# Altium schematic symbol library Adafruit PyGamer.SCHLIB: 259 symbols (part 3 of 3)
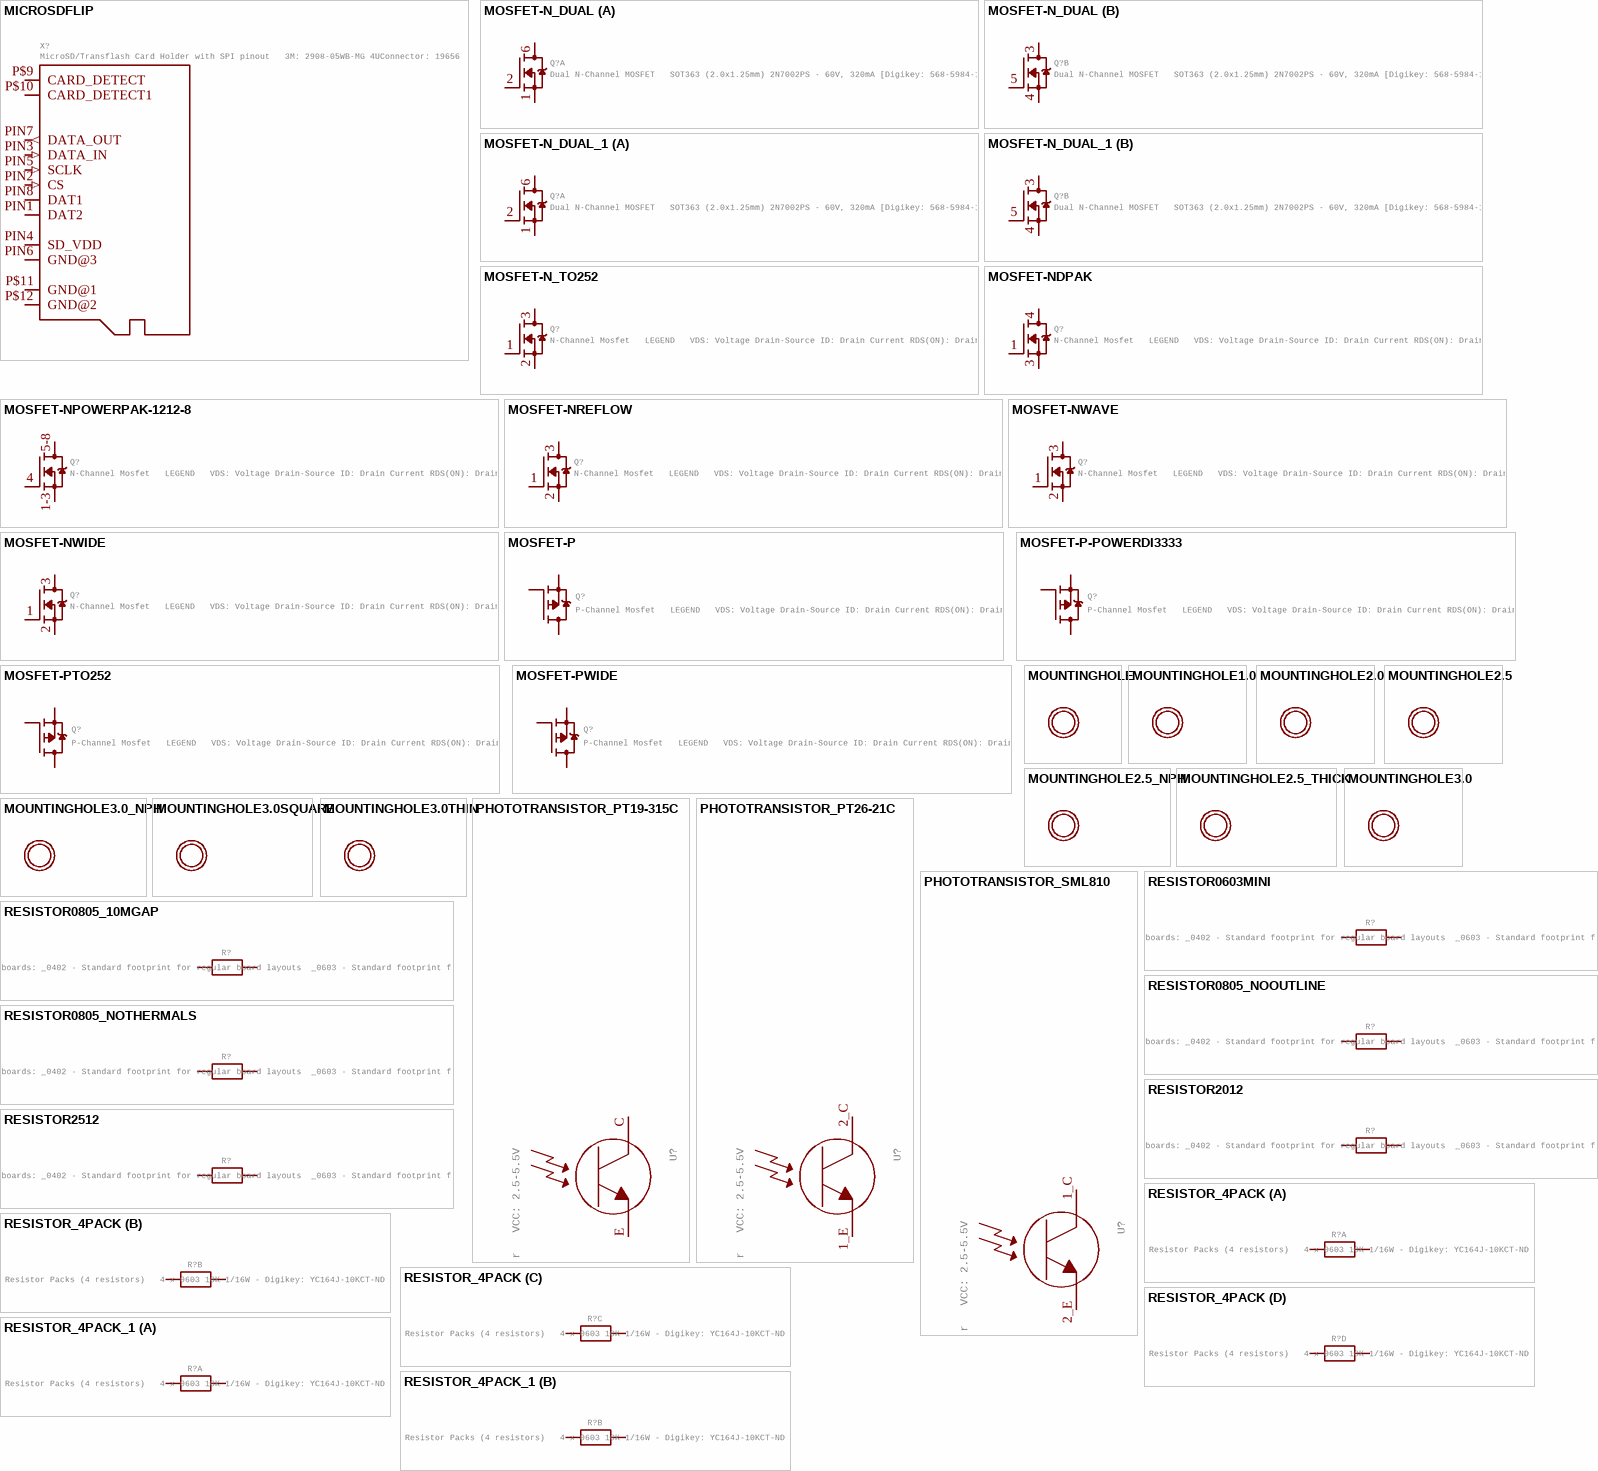
[diagram p11: symbols MICROSDFLIP to RESISTOR_4PACK_1]

## MOUNTINGHOLE2.5
designator ?, comment Mounting Hole   For #2 screws (0.086"/2.18mm width, 0.094"/2.4mm hole) use 2.5mm  (value not drawn)
GateName_1: G$1; DeviceName: 2.5; BOM: EXCLUDE; SymbolName_1: MOUNTINGHOLE; LibraryName: Adafruit PyGamer; DeviceSetName: MOUNTINGHOLE; Package: MOUNTINGHOLE_2.5_PLATED
footprint MOUNTINGHOLE_2.5_PLATED

## MOUNTINGHOLE2.5_NPH
designator ?, comment Mounting Hole   For #2 screws (0.086"/2.18mm width, 0.094"/2.4mm hole) use 2.5mm  (value not drawn)
GateName_1: G$1; DeviceName: 2.5_NPH; SymbolName_1: MOUNTINGHOLE; LibraryName: Adafruit PyGamer; DeviceSetName: MOUNTINGHOLE; Package: MOUNTINGHOLE_2.5_NPH
footprint MOUNTINGHOLE_2.5_NPH

## MOUNTINGHOLE2.5_THICK
designator ?, comment Mounting Hole   For #2 screws (0.086"/2.18mm width, 0.094"/2.4mm hole) use 2.5mm  (value not drawn)
GateName_1: G$1; DeviceName: 2.5_THICK; BOM: EXCLUDE; SymbolName_1: MOUNTINGHOLE; LibraryName: Adafruit PyGamer; DeviceSetName: MOUNTINGHOLE; Package: MOUNTINGHOLE_2.5_PLATED_THICK
footprint MOUNTINGHOLE_2.5_PLATED_THICK

## MOUNTINGHOLE3.0
designator ?, comment Mounting Hole   For #2 screws (0.086"/2.18mm width, 0.094"/2.4mm hole) use 2.5mm  (value not drawn)
GateName_1: G$1; DeviceName: 3.0; BOM: EXCLUDE; SymbolName_1: MOUNTINGHOLE; LibraryName: Adafruit PyGamer; DeviceSetName: MOUNTINGHOLE; Package: MOUNTINGHOLE_3.0_PLATED
footprint MOUNTINGHOLE_3.0_PLATED

## MOUNTINGHOLE3.0_NPH
designator ?, comment Mounting Hole   For #2 screws (0.086"/2.18mm width, 0.094"/2.4mm hole) use 2.5mm  (value not drawn)
GateName_1: G$1; DeviceName: 3.0_NPH; SymbolName_1: MOUNTINGHOLE; LibraryName: Adafruit PyGamer; DeviceSetName: MOUNTINGHOLE; Package: MOUNTINGHOLE_3.0_NPH
footprint MOUNTINGHOLE_3.0_NPH

## MOUNTINGHOLE3.0SQUARE
designator ?, comment Mounting Hole   For #2 screws (0.086"/2.18mm width, 0.094"/2.4mm hole) use 2.5mm  (value not drawn)
GateName_1: G$1; DeviceName: 3.0SQUARE; BOM: EXCLUDE; SymbolName_1: MOUNTINGHOLE; LibraryName: Adafruit PyGamer; DeviceSetName: MOUNTINGHOLE; Package: MOUNTINGHOLE_3.0_PLATED_SQUAREVIAS
footprint MOUNTINGHOLE_3.0_PLATED_SQUAREVIAS

## MOUNTINGHOLE3.0THIN
designator ?, comment Mounting Hole   For #2 screws (0.086"/2.18mm width, 0.094"/2.4mm hole) use 2.5mm  (value not drawn)
GateName_1: G$1; DeviceName: 3.0THIN; BOM: EXCLUDE; SymbolName_1: MOUNTINGHOLE; LibraryName: Adafruit PyGamer; DeviceSetName: MOUNTINGHOLE; Package: MOUNTINGHOLE_3.0_PLATEDTHIN
footprint MOUNTINGHOLE_3.0_PLATEDTHIN

## PHOTOTRANSISTOR_PT19-315C
designator U?, comment ALS-PT19-315C - Analog Light Sensor   VCC: 2.5-5.5V
GateName_1: G$1; DeviceName: _PT19-315C; DeviceSetName: PHOTOTRANSISTOR; SymbolName_1: ALS-PT19-315C; LibraryName: Adafruit PyGamer; Package: ALS-PT19-315C
footprint ALS-PT19-315C
pins: C (io), E (io)

## PHOTOTRANSISTOR_PT26-21C
designator U?, comment ALS-PT19-315C - Analog Light Sensor   VCC: 2.5-5.5V
GateName_1: G$1; DeviceName: _PT26-21C; DeviceSetName: PHOTOTRANSISTOR; SymbolName_1: ALS-PT19-315C; LibraryName: Adafruit PyGamer; Package: ALS-PT26-21C
footprint ALS-PT26-21C
pins: 1_E E (io), 2_C C (io)

## PHOTOTRANSISTOR_SML810
designator U?, comment ALS-PT19-315C - Analog Light Sensor   VCC: 2.5-5.5V
GateName_1: G$1; DeviceName: _SML810; DeviceSetName: PHOTOTRANSISTOR; SymbolName_1: ALS-PT19-315C; LibraryName: Adafruit PyGamer; Package: SML-810
footprint SML-810
pins: 1_C C (io), 2_E E (io)

## RESISTOR0603MINI
designator R?, comment Resistors   For new designs, use the packages preceded by an '_' character since they are more reliable:   The following footprints should be used on most boards: _0402 - Standard footprint for regular board layouts  _0603 - Standard footprint for regular board layouts  _0805 - Standard footprint for regular board layouts  _1206 - Standard footprint for regular board layouts       For extremely tight-pitch boards where space is at a premium, the following 'micro-pitch' footprints can be used (smaller pads, no silkscreen outline, etc.): _0402MP - Micro-pitch footprint for very dense/compact boards  _0603MP - Micro-pitch footprint for very dense/compact boards  _0805MP - Micro-pitch footprint for very dense/compact boards  _1206MP - Micro-pitch footprint for very dense/compact boards
GateName_1: G$1; DeviceName: 0603MINI; SymbolName_1: RESISTOR; LibraryName: Adafruit PyGamer; DeviceSetName: RESISTOR; Package: 0603-MINI
footprint 0603-MINI
pins: 1, 2

## RESISTOR0805_10MGAP
designator R?, comment Resistors   For new designs, use the packages preceded by an '_' character since they are more reliable:   The following footprints should be used on most boards: _0402 - Standard footprint for regular board layouts  _0603 - Standard footprint for regular board layouts  _0805 - Standard footprint for regular board layouts  _1206 - Standard footprint for regular board layouts       For extremely tight-pitch boards where space is at a premium, the following 'micro-pitch' footprints can be used (smaller pads, no silkscreen outline, etc.): _0402MP - Micro-pitch footprint for very dense/compact boards  _0603MP - Micro-pitch footprint for very dense/compact boards  _0805MP - Micro-pitch footprint for very dense/compact boards  _1206MP - Micro-pitch footprint for very dense/compact boards
GateName_1: G$1; DeviceName: 0805_10MGAP; SymbolName_1: RESISTOR; LibraryName: Adafruit PyGamer; DeviceSetName: RESISTOR; Package: 0805_10MGAP
footprint 0805_10MGAP
pins: 1, 2

## RESISTOR0805_NOOUTLINE
designator R?, comment Resistors   For new designs, use the packages preceded by an '_' character since they are more reliable:   The following footprints should be used on most boards: _0402 - Standard footprint for regular board layouts  _0603 - Standard footprint for regular board layouts  _0805 - Standard footprint for regular board layouts  _1206 - Standard footprint for regular board layouts       For extremely tight-pitch boards where space is at a premium, the following 'micro-pitch' footprints can be used (smaller pads, no silkscreen outline, etc.): _0402MP - Micro-pitch footprint for very dense/compact boards  _0603MP - Micro-pitch footprint for very dense/compact boards  _0805MP - Micro-pitch footprint for very dense/compact boards  _1206MP - Micro-pitch footprint for very dense/compact boards
GateName_1: G$1; DeviceName: 0805_NOOUTLINE; SymbolName_1: RESISTOR; LibraryName: Adafruit PyGamer; DeviceSetName: RESISTOR; Package: 0805-NO
footprint 0805-NO
pins: 1, 2

## RESISTOR0805_NOTHERMALS
designator R?, comment Resistors   For new designs, use the packages preceded by an '_' character since they are more reliable:   The following footprints should be used on most boards: _0402 - Standard footprint for regular board layouts  _0603 - Standard footprint for regular board layouts  _0805 - Standard footprint for regular board layouts  _1206 - Standard footprint for regular board layouts       For extremely tight-pitch boards where space is at a premium, the following 'micro-pitch' footprints can be used (smaller pads, no silkscreen outline, etc.): _0402MP - Micro-pitch footprint for very dense/compact boards  _0603MP - Micro-pitch footprint for very dense/compact boards  _0805MP - Micro-pitch footprint for very dense/compact boards  _1206MP - Micro-pitch footprint for very dense/compact boards
GateName_1: G$1; DeviceName: 0805_NOTHERMALS; SymbolName_1: RESISTOR; LibraryName: Adafruit PyGamer; DeviceSetName: RESISTOR; Package: 0805_NOTHERMALS
footprint 0805_NOTHERMALS
pins: 1, 2

## RESISTOR2012
designator R?, comment Resistors   For new designs, use the packages preceded by an '_' character since they are more reliable:   The following footprints should be used on most boards: _0402 - Standard footprint for regular board layouts  _0603 - Standard footprint for regular board layouts  _0805 - Standard footprint for regular board layouts  _1206 - Standard footprint for regular board layouts       For extremely tight-pitch boards where space is at a premium, the following 'micro-pitch' footprints can be used (smaller pads, no silkscreen outline, etc.): _0402MP - Micro-pitch footprint for very dense/compact boards  _0603MP - Micro-pitch footprint for very dense/compact boards  _0805MP - Micro-pitch footprint for very dense/compact boards  _1206MP - Micro-pitch footprint for very dense/compact boards
GateName_1: G$1; DeviceName: 2012; SymbolName_1: RESISTOR; LibraryName: Adafruit PyGamer; DeviceSetName: RESISTOR; Package: 2012
footprint 2012
pins: 1, 2

## RESISTOR2512
designator R?, comment Resistors   For new designs, use the packages preceded by an '_' character since they are more reliable:   The following footprints should be used on most boards: _0402 - Standard footprint for regular board layouts  _0603 - Standard footprint for regular board layouts  _0805 - Standard footprint for regular board layouts  _1206 - Standard footprint for regular board layouts       For extremely tight-pitch boards where space is at a premium, the following 'micro-pitch' footprints can be used (smaller pads, no silkscreen outline, etc.): _0402MP - Micro-pitch footprint for very dense/compact boards  _0603MP - Micro-pitch footprint for very dense/compact boards  _0805MP - Micro-pitch footprint for very dense/compact boards  _1206MP - Micro-pitch footprint for very dense/compact boards
GateName_1: G$1; DeviceName: 2512; SymbolName_1: RESISTOR; LibraryName: Adafruit PyGamer; DeviceSetName: RESISTOR; Package: 2512
footprint 2512
pins: 1, 2

## RESISTOR_4PACK
designator R?, comment Resistor Packs (4 resistors)   4 x 0603 10K 1/16W - Digikey: YC164J-10KCT-ND
GateName_1: G$1; GateName_2: G$2; GateName_3: G$3; GateName_4: G$4; DeviceSetName: RESISTOR_4PACK; SymbolName_1: RESISTOR; SymbolName_2: RESISTOR; SymbolName_3: RESISTOR; SymbolName_4: RESISTOR; LibraryName: Adafruit PyGamer; Package: RESPACK_4X0603
footprint RESPACK_4X0603
part A pins: 1, 8 2
part B pins: 2 1, 7 2
part C pins: 3 1, 6 2
part D pins: 4 1, 5 2

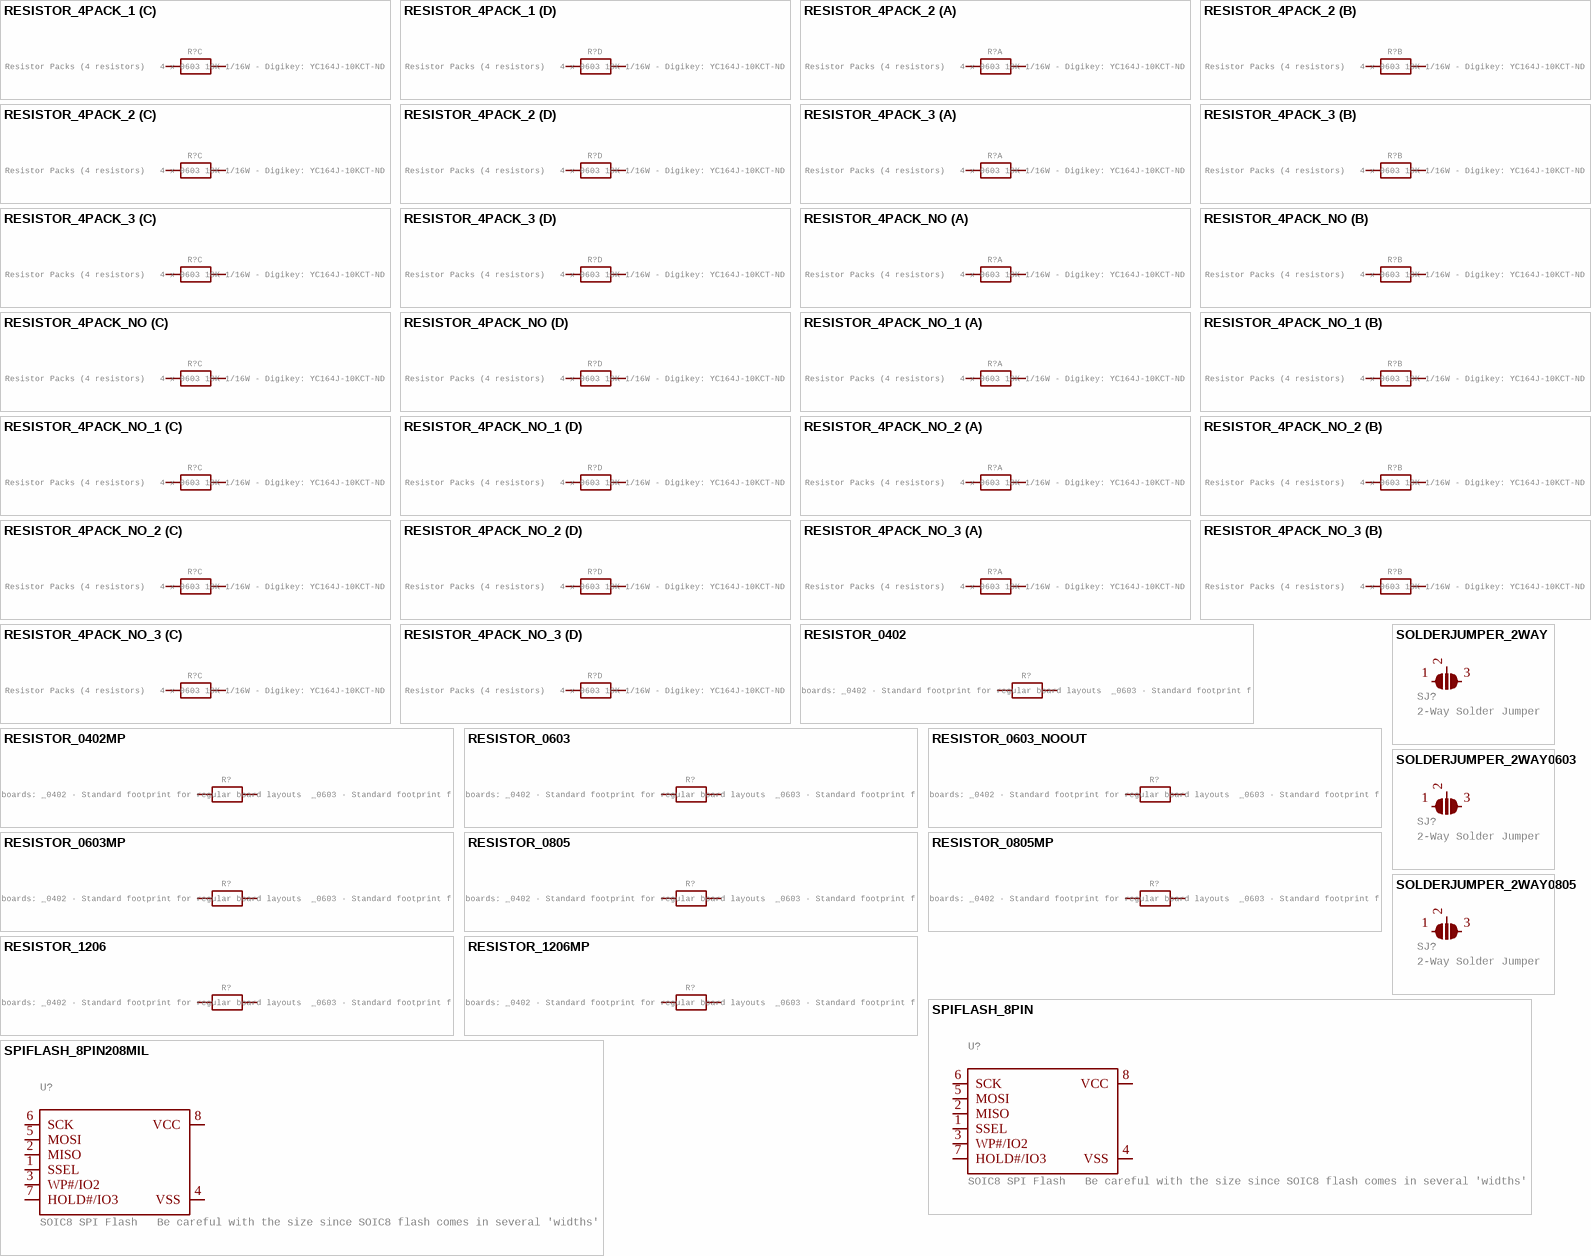
[diagram p7: symbols RESISTOR_4PACK_1 to SPIFLASH_8PIN208MIL]

## RESISTOR_4PACK_1
designator R?, comment Resistor Packs (4 resistors)   4 x 0603 10K 1/16W - Digikey: YC164J-10KCT-ND
GateName_1: G$1; GateName_2: G$2; GateName_3: G$3; GateName_4: G$4; DeviceSetName: RESISTOR_4PACK; SymbolName_1: RESISTOR; SymbolName_2: RESISTOR; SymbolName_3: RESISTOR; SymbolName_4: RESISTOR; LibraryName: Adafruit PyGamer; Package: RESPACK_4X0603
footprint RESPACK_4X0603
part A pins: 1, 8 2
part B pins: 2 1, 7 2
part C pins: 3 1, 6 2
part D pins: 4 1, 5 2

## RESISTOR_4PACK_2
designator R?, comment Resistor Packs (4 resistors)   4 x 0603 10K 1/16W - Digikey: YC164J-10KCT-ND
GateName_1: G$1; GateName_2: G$2; GateName_3: G$3; GateName_4: G$4; DeviceSetName: RESISTOR_4PACK; SymbolName_1: RESISTOR; SymbolName_2: RESISTOR; SymbolName_3: RESISTOR; SymbolName_4: RESISTOR; LibraryName: Adafruit PyGamer; Package: RESPACK_4X0603
footprint RESPACK_4X0603
part A pins: 1, 8 2
part B pins: 2 1, 7 2
part C pins: 3 1, 6 2
part D pins: 4 1, 5 2

## RESISTOR_4PACK_3
designator R?, comment Resistor Packs (4 resistors)   4 x 0603 10K 1/16W - Digikey: YC164J-10KCT-ND
GateName_1: G$1; GateName_2: G$2; GateName_3: G$3; GateName_4: G$4; DeviceSetName: RESISTOR_4PACK; SymbolName_1: RESISTOR; SymbolName_2: RESISTOR; SymbolName_3: RESISTOR; SymbolName_4: RESISTOR; LibraryName: Adafruit PyGamer; Package: RESPACK_4X0603
footprint RESPACK_4X0603
part A pins: 1, 8 2
part B pins: 2 1, 7 2
part C pins: 3 1, 6 2
part D pins: 4 1, 5 2

## RESISTOR_4PACK_NO
designator R?, comment Resistor Packs (4 resistors)   4 x 0603 10K 1/16W - Digikey: YC164J-10KCT-ND
GateName_1: G$1; GateName_2: G$2; GateName_3: G$3; GateName_4: G$4; DeviceName: _NO; DeviceSetName: RESISTOR_4PACK; SymbolName_1: RESISTOR; SymbolName_2: RESISTOR; SymbolName_3: RESISTOR; SymbolName_4: RESISTOR; LibraryName: Adafruit PyGamer; Package: RESPACK_4X0603_NO
footprint RESPACK_4X0603_NO
part A pins: 1, 8 2
part B pins: 2 1, 7 2
part C pins: 3 1, 6 2
part D pins: 4 1, 5 2

## RESISTOR_4PACK_NO_1
designator R?, comment Resistor Packs (4 resistors)   4 x 0603 10K 1/16W - Digikey: YC164J-10KCT-ND
GateName_1: G$1; GateName_2: G$2; GateName_3: G$3; GateName_4: G$4; DeviceName: _NO; DeviceSetName: RESISTOR_4PACK; SymbolName_1: RESISTOR; SymbolName_2: RESISTOR; SymbolName_3: RESISTOR; SymbolName_4: RESISTOR; LibraryName: Adafruit PyGamer; Package: RESPACK_4X0603_NO
footprint RESPACK_4X0603_NO
part A pins: 1, 8 2
part B pins: 2 1, 7 2
part C pins: 3 1, 6 2
part D pins: 4 1, 5 2

## RESISTOR_4PACK_NO_2
designator R?, comment Resistor Packs (4 resistors)   4 x 0603 10K 1/16W - Digikey: YC164J-10KCT-ND
GateName_1: G$1; GateName_2: G$2; GateName_3: G$3; GateName_4: G$4; DeviceName: _NO; DeviceSetName: RESISTOR_4PACK; SymbolName_1: RESISTOR; SymbolName_2: RESISTOR; SymbolName_3: RESISTOR; SymbolName_4: RESISTOR; LibraryName: Adafruit PyGamer; Package: RESPACK_4X0603_NO
footprint RESPACK_4X0603_NO
part A pins: 1, 8 2
part B pins: 2 1, 7 2
part C pins: 3 1, 6 2
part D pins: 4 1, 5 2

## RESISTOR_4PACK_NO_3
designator R?, comment Resistor Packs (4 resistors)   4 x 0603 10K 1/16W - Digikey: YC164J-10KCT-ND
GateName_1: G$1; GateName_2: G$2; GateName_3: G$3; GateName_4: G$4; DeviceName: _NO; DeviceSetName: RESISTOR_4PACK; SymbolName_1: RESISTOR; SymbolName_2: RESISTOR; SymbolName_3: RESISTOR; SymbolName_4: RESISTOR; LibraryName: Adafruit PyGamer; Package: RESPACK_4X0603_NO
footprint RESPACK_4X0603_NO
part A pins: 1, 8 2
part B pins: 2 1, 7 2
part C pins: 3 1, 6 2
part D pins: 4 1, 5 2

## RESISTOR_0402
designator R?, comment Resistors   For new designs, use the packages preceded by an '_' character since they are more reliable:   The following footprints should be used on most boards: _0402 - Standard footprint for regular board layouts  _0603 - Standard footprint for regular board layouts  _0805 - Standard footprint for regular board layouts  _1206 - Standard footprint for regular board layouts       For extremely tight-pitch boards where space is at a premium, the following 'micro-pitch' footprints can be used (smaller pads, no silkscreen outline, etc.): _0402MP - Micro-pitch footprint for very dense/compact boards  _0603MP - Micro-pitch footprint for very dense/compact boards  _0805MP - Micro-pitch footprint for very dense/compact boards  _1206MP - Micro-pitch footprint for very dense/compact boards
GateName_1: G$1; SymbolName_1: RESISTOR; DeviceName: _0402; LibraryName: Adafruit PyGamer; DeviceSetName: RESISTOR; Package: _0402
footprint _0402
pins: 1, 2

## RESISTOR_0402MP
designator R?, comment Resistors   For new designs, use the packages preceded by an '_' character since they are more reliable:   The following footprints should be used on most boards: _0402 - Standard footprint for regular board layouts  _0603 - Standard footprint for regular board layouts  _0805 - Standard footprint for regular board layouts  _1206 - Standard footprint for regular board layouts       For extremely tight-pitch boards where space is at a premium, the following 'micro-pitch' footprints can be used (smaller pads, no silkscreen outline, etc.): _0402MP - Micro-pitch footprint for very dense/compact boards  _0603MP - Micro-pitch footprint for very dense/compact boards  _0805MP - Micro-pitch footprint for very dense/compact boards  _1206MP - Micro-pitch footprint for very dense/compact boards
GateName_1: G$1; SymbolName_1: RESISTOR; DeviceName: _0402MP; LibraryName: Adafruit PyGamer; DeviceSetName: RESISTOR; Package: _0402MP
footprint _0402MP
pins: 1, 2

## RESISTOR_0603
designator R?, comment Resistors   For new designs, use the packages preceded by an '_' character since they are more reliable:   The following footprints should be used on most boards: _0402 - Standard footprint for regular board layouts  _0603 - Standard footprint for regular board layouts  _0805 - Standard footprint for regular board layouts  _1206 - Standard footprint for regular board layouts       For extremely tight-pitch boards where space is at a premium, the following 'micro-pitch' footprints can be used (smaller pads, no silkscreen outline, etc.): _0402MP - Micro-pitch footprint for very dense/compact boards  _0603MP - Micro-pitch footprint for very dense/compact boards  _0805MP - Micro-pitch footprint for very dense/compact boards  _1206MP - Micro-pitch footprint for very dense/compact boards
GateName_1: G$1; SymbolName_1: RESISTOR; DeviceName: _0603; LibraryName: Adafruit PyGamer; DeviceSetName: RESISTOR; Package: _0603
footprint _0603
pins: 1, 2

## RESISTOR_0603_NOOUT
designator R?, comment Resistors   For new designs, use the packages preceded by an '_' character since they are more reliable:   The following footprints should be used on most boards: _0402 - Standard footprint for regular board layouts  _0603 - Standard footprint for regular board layouts  _0805 - Standard footprint for regular board layouts  _1206 - Standard footprint for regular board layouts       For extremely tight-pitch boards where space is at a premium, the following 'micro-pitch' footprints can be used (smaller pads, no silkscreen outline, etc.): _0402MP - Micro-pitch footprint for very dense/compact boards  _0603MP - Micro-pitch footprint for very dense/compact boards  _0805MP - Micro-pitch footprint for very dense/compact boards  _1206MP - Micro-pitch footprint for very dense/compact boards
GateName_1: G$1; DeviceName: _0603_NOOUT; SymbolName_1: RESISTOR; LibraryName: Adafruit PyGamer; DeviceSetName: RESISTOR; Package: 0603-NO
footprint 0603-NO
pins: 1, 2

## RESISTOR_0603MP
designator R?, comment Resistors   For new designs, use the packages preceded by an '_' character since they are more reliable:   The following footprints should be used on most boards: _0402 - Standard footprint for regular board layouts  _0603 - Standard footprint for regular board layouts  _0805 - Standard footprint for regular board layouts  _1206 - Standard footprint for regular board layouts       For extremely tight-pitch boards where space is at a premium, the following 'micro-pitch' footprints can be used (smaller pads, no silkscreen outline, etc.): _0402MP - Micro-pitch footprint for very dense/compact boards  _0603MP - Micro-pitch footprint for very dense/compact boards  _0805MP - Micro-pitch footprint for very dense/compact boards  _1206MP - Micro-pitch footprint for very dense/compact boards
GateName_1: G$1; SymbolName_1: RESISTOR; DeviceName: _0603MP; LibraryName: Adafruit PyGamer; DeviceSetName: RESISTOR; Package: _0603MP
footprint _0603MP
pins: 1, 2

## RESISTOR_0805
designator R?, comment Resistors   For new designs, use the packages preceded by an '_' character since they are more reliable:   The following footprints should be used on most boards: _0402 - Standard footprint for regular board layouts  _0603 - Standard footprint for regular board layouts  _0805 - Standard footprint for regular board layouts  _1206 - Standard footprint for regular board layouts       For extremely tight-pitch boards where space is at a premium, the following 'micro-pitch' footprints can be used (smaller pads, no silkscreen outline, etc.): _0402MP - Micro-pitch footprint for very dense/compact boards  _0603MP - Micro-pitch footprint for very dense/compact boards  _0805MP - Micro-pitch footprint for very dense/compact boards  _1206MP - Micro-pitch footprint for very dense/compact boards
GateName_1: G$1; SymbolName_1: RESISTOR; DeviceName: _0805; LibraryName: Adafruit PyGamer; DeviceSetName: RESISTOR; Package: _0805
footprint _0805
pins: 1, 2

## RESISTOR_0805MP
designator R?, comment Resistors   For new designs, use the packages preceded by an '_' character since they are more reliable:   The following footprints should be used on most boards: _0402 - Standard footprint for regular board layouts  _0603 - Standard footprint for regular board layouts  _0805 - Standard footprint for regular board layouts  _1206 - Standard footprint for regular board layouts       For extremely tight-pitch boards where space is at a premium, the following 'micro-pitch' footprints can be used (smaller pads, no silkscreen outline, etc.): _0402MP - Micro-pitch footprint for very dense/compact boards  _0603MP - Micro-pitch footprint for very dense/compact boards  _0805MP - Micro-pitch footprint for very dense/compact boards  _1206MP - Micro-pitch footprint for very dense/compact boards
GateName_1: G$1; SymbolName_1: RESISTOR; DeviceName: _0805MP; LibraryName: Adafruit PyGamer; DeviceSetName: RESISTOR; Package: _0805MP
footprint _0805MP
pins: 1, 2

## RESISTOR_1206
designator R?, comment Resistors   For new designs, use the packages preceded by an '_' character since they are more reliable:   The following footprints should be used on most boards: _0402 - Standard footprint for regular board layouts  _0603 - Standard footprint for regular board layouts  _0805 - Standard footprint for regular board layouts  _1206 - Standard footprint for regular board layouts       For extremely tight-pitch boards where space is at a premium, the following 'micro-pitch' footprints can be used (smaller pads, no silkscreen outline, etc.): _0402MP - Micro-pitch footprint for very dense/compact boards  _0603MP - Micro-pitch footprint for very dense/compact boards  _0805MP - Micro-pitch footprint for very dense/compact boards  _1206MP - Micro-pitch footprint for very dense/compact boards
GateName_1: G$1; SymbolName_1: RESISTOR; DeviceName: _1206; LibraryName: Adafruit PyGamer; DeviceSetName: RESISTOR; Package: _1206
footprint _1206
pins: 1, 2

## RESISTOR_1206MP
designator R?, comment Resistors   For new designs, use the packages preceded by an '_' character since they are more reliable:   The following footprints should be used on most boards: _0402 - Standard footprint for regular board layouts  _0603 - Standard footprint for regular board layouts  _0805 - Standard footprint for regular board layouts  _1206 - Standard footprint for regular board layouts       For extremely tight-pitch boards where space is at a premium, the following 'micro-pitch' footprints can be used (smaller pads, no silkscreen outline, etc.): _0402MP - Micro-pitch footprint for very dense/compact boards  _0603MP - Micro-pitch footprint for very dense/compact boards  _0805MP - Micro-pitch footprint for very dense/compact boards  _1206MP - Micro-pitch footprint for very dense/compact boards
GateName_1: G$1; SymbolName_1: RESISTOR; DeviceName: _1206MP; LibraryName: Adafruit PyGamer; DeviceSetName: RESISTOR; Package: _1206MP
footprint _1206MP
pins: 1, 2

## SOLDERJUMPER_2WAY
designator SJ?, comment 2-Way Solder Jumper
GateName_1: G$1; SymbolName_1: SOLDERJUMPER_2WAY; LibraryName: Adafruit PyGamer; DeviceSetName: SOLDERJUMPER_2WAY; Package: SOLDERJUMPER_2WAY_OPEN_NOPASTE
footprint SOLDERJUMPER_2WAY_OPEN_NOPASTE
pins: 1, 2, 3

## SOLDERJUMPER_2WAY0603
designator SJ?, comment 2-Way Solder Jumper
GateName_1: G$1; SymbolName_1: SOLDERJUMPER_2WAY; DeviceName: 0603; LibraryName: Adafruit PyGamer; DeviceSetName: SOLDERJUMPER_2WAY; Package: SOLDERJUMPER_2WAY_OPEN_0603
footprint SOLDERJUMPER_2WAY_OPEN_0603
pins: 1, 2, 3

## SOLDERJUMPER_2WAY0805
designator SJ?, comment 2-Way Solder Jumper
GateName_1: G$1; SymbolName_1: SOLDERJUMPER_2WAY; DeviceName: 0805; LibraryName: Adafruit PyGamer; DeviceSetName: SOLDERJUMPER_2WAY; Package: SOLDERJUMPER_2WAY_OPEN_0805
footprint SOLDERJUMPER_2WAY_OPEN_0805
pins: 1, 2, 3

## SPIFLASH_8PIN
designator U?, comment SOIC8 SPI Flash   Be careful with the size since SOIC8 flash comes in several 'widths'   SOIC8 150 mil M25P16 - 16Mbit (2Mbit x 8) Serial Flash (75MHz SPI Bus), Supply: 2.7-3.6V  Digikey:  SOIC8 - M25P16-VMN6P-ND       SOIC8 208 mil W25Q16BVSSIG - 16Mbit (2Mbit x 8) Serial Flash (104MHz SPI Bus), Supply: 2.7-3.6V  Digikey:  SOIC8 - W25Q16BVSSIG-ND
GateName_1: G$1; DeviceSetName: SPIFLASH_8PIN; SymbolName_1: M25P16; LibraryName: Adafruit PyGamer; Package: SOIC8_150MIL
footprint SOIC8_150MIL
pins: 1 SSEL (io), 2 MISO (io), 3 WP#/IO2 (io), 4 VSS (io), 5 MOSI (io), 6 SCK (io), 7 HOLD#/IO3 (io), 8 VCC (io)

## SPIFLASH_8PIN208MIL
designator U?, comment SOIC8 SPI Flash   Be careful with the size since SOIC8 flash comes in several 'widths'   SOIC8 150 mil M25P16 - 16Mbit (2Mbit x 8) Serial Flash (75MHz SPI Bus), Supply: 2.7-3.6V  Digikey:  SOIC8 - M25P16-VMN6P-ND       SOIC8 208 mil W25Q16BVSSIG - 16Mbit (2Mbit x 8) Serial Flash (104MHz SPI Bus), Supply: 2.7-3.6V  Digikey:  SOIC8 - W25Q16BVSSIG-ND
GateName_1: G$1; DeviceName: 208MIL; DeviceSetName: SPIFLASH_8PIN; SymbolName_1: M25P16; LibraryName: Adafruit PyGamer; Package: SOIC8_208MIL
footprint SOIC8_208MIL
pins: 1 SSEL (io), 2 MISO (io), 3 WP#/IO2 (io), 4 VSS (io), 5 MOSI (io), 6 SCK (io), 7 HOLD#/IO3 (io), 8 VCC (io)

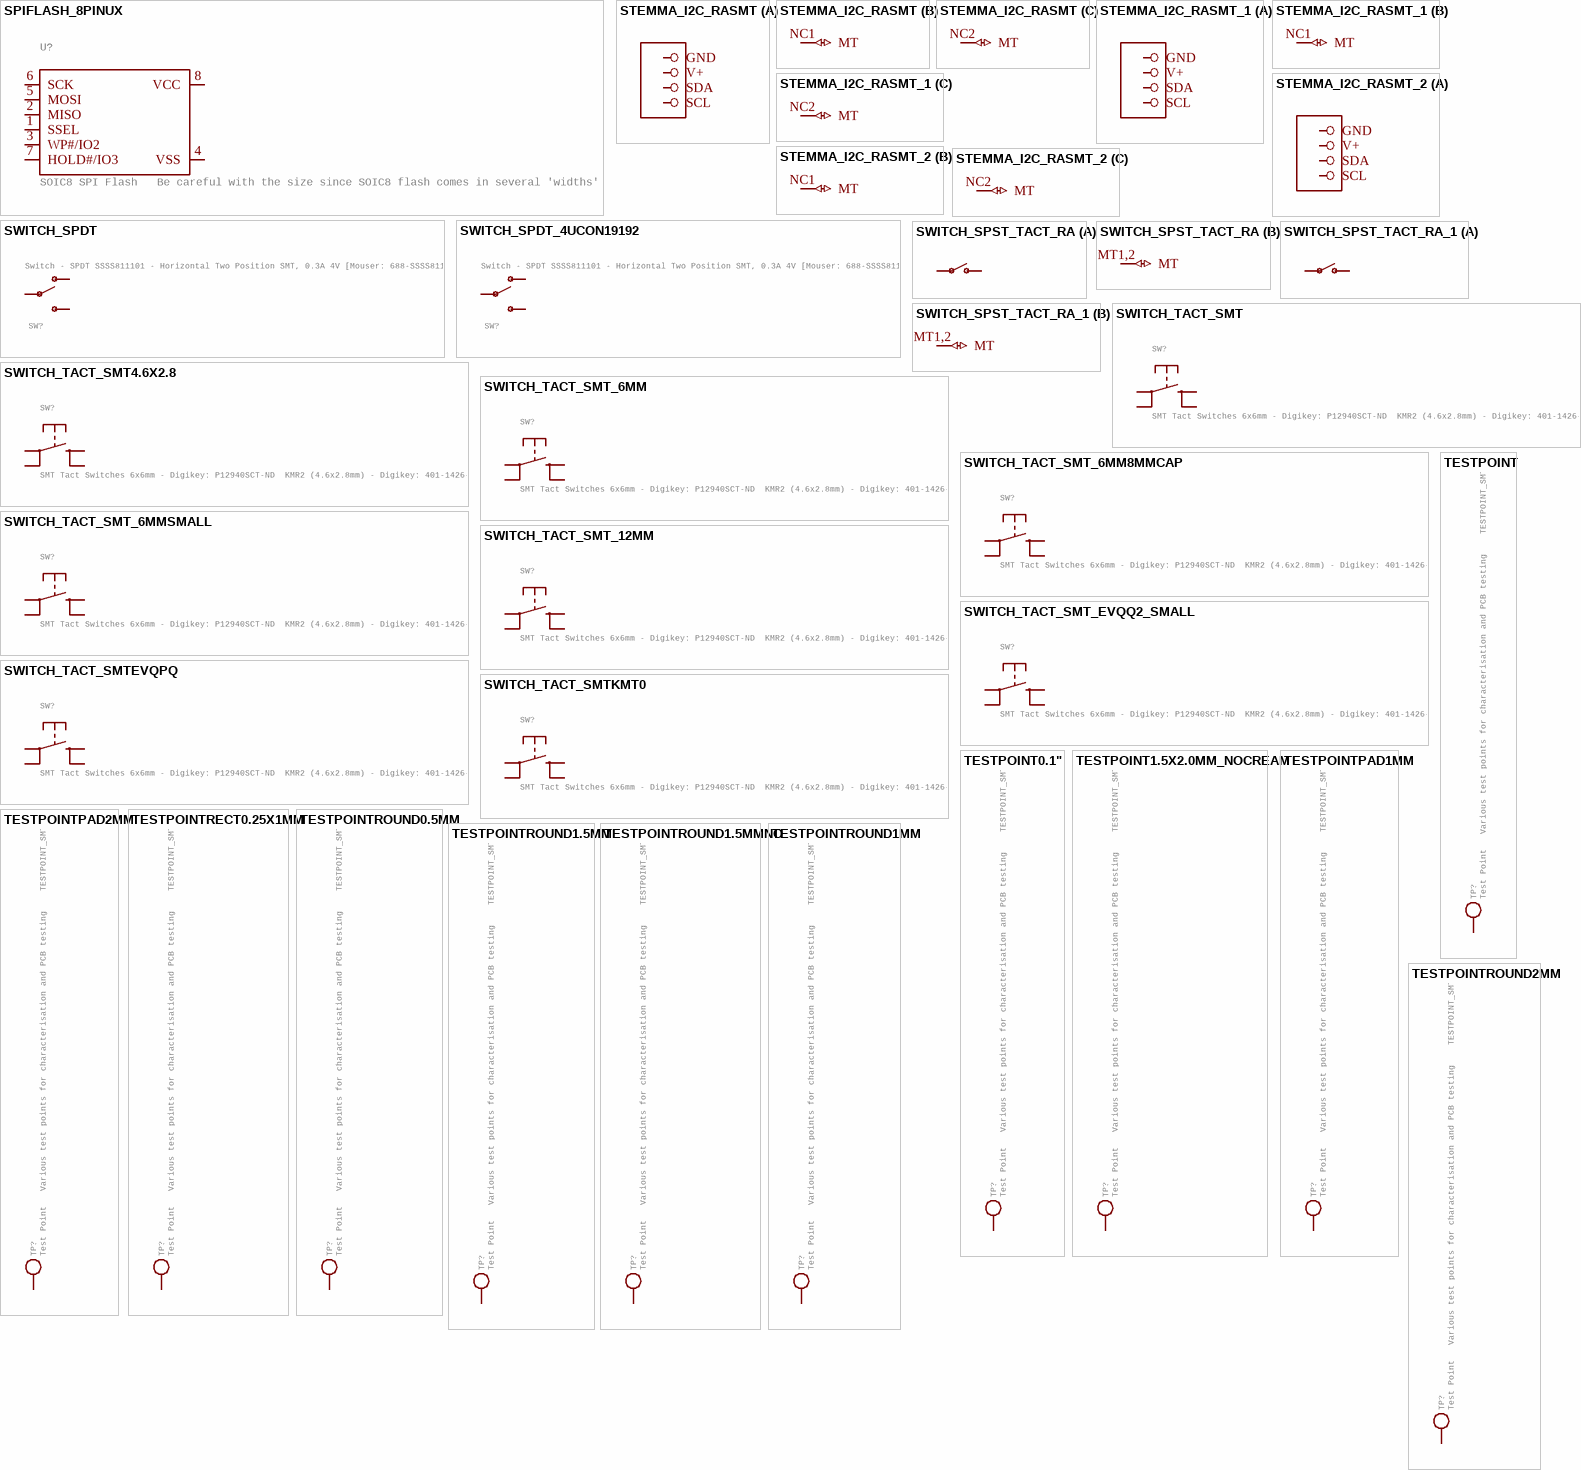
[diagram p8: symbols SPIFLASH_8PINUX to TESTPOINTROUND2MM]

## SPIFLASH_8PINUX
designator U?, comment SOIC8 SPI Flash   Be careful with the size since SOIC8 flash comes in several 'widths'   SOIC8 150 mil M25P16 - 16Mbit (2Mbit x 8) Serial Flash (75MHz SPI Bus), Supply: 2.7-3.6V  Digikey:  SOIC8 - M25P16-VMN6P-ND       SOIC8 208 mil W25Q16BVSSIG - 16Mbit (2Mbit x 8) Serial Flash (104MHz SPI Bus), Supply: 2.7-3.6V  Digikey:  SOIC8 - W25Q16BVSSIG-ND
GateName_1: G$1; DeviceName: UX; DeviceSetName: SPIFLASH_8PIN; SymbolName_1: M25P16; LibraryName: Adafruit PyGamer; Package: USON8
footprint USON8
pins: 1 SSEL (io), 2 MISO (io), 3 WP#/IO2 (io), 4 VSS (io), 5 MOSI (io), 6 SCK (io), 7 HOLD#/IO3 (io), 8 VCC (io)

## STEMMA_I2C_RASMT
designator CONN?
GateName_1: G$1; SymbolName_1: STEMMA_I2C; GateName_2: G$2; SymbolName_2: MOUNTING; GateName_3: G$3; DeviceName: _RASMT; SymbolName_3: MOUNTING; LibraryName: Adafruit PyGamer; DeviceSetName: STEMMA_I2C; Package: JSTPH4
footprint JSTPH4
part A pins: 1 GND, 2 V+, 3 SDA, 4 SCL
part B pins: NC1 MT (io)
part C pins: NC2 MT (io)

## STEMMA_I2C_RASMT_1
designator CONN?
GateName_1: G$1; SymbolName_1: STEMMA_I2C; GateName_2: G$2; SymbolName_2: MOUNTING; GateName_3: G$3; DeviceName: _RASMT; SymbolName_3: MOUNTING; LibraryName: Adafruit PyGamer; DeviceSetName: STEMMA_I2C; Package: JSTPH4
footprint JSTPH4
part A pins: 1 GND, 2 V+, 3 SDA, 4 SCL
part B pins: NC1 MT (io)
part C pins: NC2 MT (io)

## STEMMA_I2C_RASMT_2
designator CONN?
GateName_1: G$1; SymbolName_1: STEMMA_I2C; GateName_2: G$2; SymbolName_2: MOUNTING; GateName_3: G$3; DeviceName: _RASMT; SymbolName_3: MOUNTING; LibraryName: Adafruit PyGamer; DeviceSetName: STEMMA_I2C; Package: JSTPH4
footprint JSTPH4
part A pins: 1 GND, 2 V+, 3 SDA, 4 SCL
part B pins: NC1 MT (io)
part C pins: NC2 MT (io)

## SWITCH_SPDT
designator SW?, comment Switch - SPDT SSSS811101 - Horizontal Two Position SMT, 0.3A 4V [Mouser: 688-SSSS811101]
GateName_1: G$1; SymbolName_1: SWITCH_SPDT; LibraryName: Adafruit PyGamer; DeviceSetName: SWITCH_SPDT; Package: SPDT_SMT_SSSS811101
footprint SPDT_SMT_SSSS811101
pins: A O, B P, C S

## SWITCH_SPDT_4UCON19192
designator SW?, comment Switch - SPDT SSSS811101 - Horizontal Two Position SMT, 0.3A 4V [Mouser: 688-SSSS811101]
GateName_1: G$1; SymbolName_1: SWITCH_SPDT; DeviceName: _4UCON19192; LibraryName: Adafruit PyGamer; DeviceSetName: SWITCH_SPDT; Package: 4UCON_19192
footprint 4UCON_19192
pins: A O, B S, COM P

## SWITCH_SPST_TACT_RA
designator SW?, comment Switch - SPST 4UCon 19192 (6.7x2.6mm SMT)  (value not drawn)
GateName_1: G$1; SymbolName_1: SWITCH_SPST; GateName_2: G$2; SymbolName_2: MOUNTING; DeviceName: _TACT_RA; LibraryName: Adafruit PyGamer; DeviceSetName: SWITCH_SPST; Package: SPST_TACTILE_RA
footprint SPST_TACTILE_RA
part A pins: 1 P, 2 S
part B pins: MT1,2 MT (io)

## SWITCH_SPST_TACT_RA_1
designator SW?, comment Switch - SPST 4UCon 19192 (6.7x2.6mm SMT)  (value not drawn)
GateName_1: G$1; SymbolName_1: SWITCH_SPST; GateName_2: G$2; SymbolName_2: MOUNTING; DeviceName: _TACT_RA; LibraryName: Adafruit PyGamer; DeviceSetName: SWITCH_SPST; Package: SPST_TACTILE_RA
footprint SPST_TACTILE_RA
part A pins: 1 P, 2 S
part B pins: MT1,2 MT (io)

## SWITCH_TACT_SMT
designator SW?, comment SMT Tact Switches 6x6mm - Digikey: P12940SCT-ND  KMR2 (4.6x2.8mm) - Digikey: 401-1426-1-ND  EVQ-PQHB55 - Light Touch, 160GF (4.5x4.5mm) - Digikey: P8090SCT-ND  KMT0 - KMT021 NGJ LHS (etc.) IP68/Waterproof - Digikey: CKN10289CT-ND
GateName_1: G$1; SymbolName_1: BUTTON_4PIN; DeviceSetName: SWITCH_TACT_SMT; LibraryName: Adafruit PyGamer; Package: EVQ-Q2
footprint EVQ-Q2
pins: A P, A' P1, B S, B' S1

## SWITCH_TACT_SMT4.6X2.8
designator SW?, comment SMT Tact Switches 6x6mm - Digikey: P12940SCT-ND  KMR2 (4.6x2.8mm) - Digikey: 401-1426-1-ND  EVQ-PQHB55 - Light Touch, 160GF (4.5x4.5mm) - Digikey: P8090SCT-ND  KMT0 - KMT021 NGJ LHS (etc.) IP68/Waterproof - Digikey: CKN10289CT-ND
GateName_1: G$1; SymbolName_1: BUTTON_4PIN; DeviceSetName: SWITCH_TACT_SMT; DeviceName: 4.6X2.8; LibraryName: Adafruit PyGamer; Package: BTN_KMR2_4.6X2.8
footprint BTN_KMR2_4.6X2.8
pins: A P, A' P1, B S, B' S1

## SWITCH_TACT_SMT_6MM
designator SW?, comment SMT Tact Switches 6x6mm - Digikey: P12940SCT-ND  KMR2 (4.6x2.8mm) - Digikey: 401-1426-1-ND  EVQ-PQHB55 - Light Touch, 160GF (4.5x4.5mm) - Digikey: P8090SCT-ND  KMT0 - KMT021 NGJ LHS (etc.) IP68/Waterproof - Digikey: CKN10289CT-ND
GateName_1: G$1; SymbolName_1: BUTTON_4PIN; DeviceName: _6MM; DeviceSetName: SWITCH_TACT_SMT; LibraryName: Adafruit PyGamer; Package: 6MMX6MM_TACTILE_SMT
footprint 6MMX6MM_TACTILE_SMT
pins: A P, A' P1, B S, B' S1

## SWITCH_TACT_SMT_6MM8MMCAP
designator SW?, comment SMT Tact Switches 6x6mm - Digikey: P12940SCT-ND  KMR2 (4.6x2.8mm) - Digikey: 401-1426-1-ND  EVQ-PQHB55 - Light Touch, 160GF (4.5x4.5mm) - Digikey: P8090SCT-ND  KMT0 - KMT021 NGJ LHS (etc.) IP68/Waterproof - Digikey: CKN10289CT-ND
GateName_1: G$1; SymbolName_1: BUTTON_4PIN; DeviceName: _6MM8MMCAP; DeviceSetName: SWITCH_TACT_SMT; LibraryName: Adafruit PyGamer; Package: 6MM_SMT_6MMCAP
footprint 6MM_SMT_6MMCAP
pins: A P, A' P1, B S, B' S1

## SWITCH_TACT_SMT_6MMSMALL
designator SW?, comment SMT Tact Switches 6x6mm - Digikey: P12940SCT-ND  KMR2 (4.6x2.8mm) - Digikey: 401-1426-1-ND  EVQ-PQHB55 - Light Touch, 160GF (4.5x4.5mm) - Digikey: P8090SCT-ND  KMT0 - KMT021 NGJ LHS (etc.) IP68/Waterproof - Digikey: CKN10289CT-ND
GateName_1: G$1; SymbolName_1: BUTTON_4PIN; DeviceName: _6MMSMALL; DeviceSetName: SWITCH_TACT_SMT; LibraryName: Adafruit PyGamer; Package: 6MM_SMT
footprint 6MM_SMT
pins: A P, A' P1, B S, B' S1

## SWITCH_TACT_SMT_12MM
designator SW?, comment SMT Tact Switches 6x6mm - Digikey: P12940SCT-ND  KMR2 (4.6x2.8mm) - Digikey: 401-1426-1-ND  EVQ-PQHB55 - Light Touch, 160GF (4.5x4.5mm) - Digikey: P8090SCT-ND  KMT0 - KMT021 NGJ LHS (etc.) IP68/Waterproof - Digikey: CKN10289CT-ND
GateName_1: G$1; SymbolName_1: BUTTON_4PIN; DeviceName: _12MM; DeviceSetName: SWITCH_TACT_SMT; LibraryName: Adafruit PyGamer; Package: B3F-40XX-SMT
footprint B3F-40XX-SMT
pins: P$1 P, P$2 P1, P$3 S, P$4 S1

## SWITCH_TACT_SMT_EVQQ2_SMALL
designator SW?, comment SMT Tact Switches 6x6mm - Digikey: P12940SCT-ND  KMR2 (4.6x2.8mm) - Digikey: 401-1426-1-ND  EVQ-PQHB55 - Light Touch, 160GF (4.5x4.5mm) - Digikey: P8090SCT-ND  KMT0 - KMT021 NGJ LHS (etc.) IP68/Waterproof - Digikey: CKN10289CT-ND
GateName_1: G$1; SymbolName_1: BUTTON_4PIN; DeviceName: _EVQQ2_SMALL; DeviceSetName: SWITCH_TACT_SMT; LibraryName: Adafruit PyGamer; Package: EVQ-Q2_SMALLER
footprint EVQ-Q2_SMALLER
pins: A P, A' P1, B S, B' S1

## SWITCH_TACT_SMTEVQPQ
designator SW?, comment SMT Tact Switches 6x6mm - Digikey: P12940SCT-ND  KMR2 (4.6x2.8mm) - Digikey: 401-1426-1-ND  EVQ-PQHB55 - Light Touch, 160GF (4.5x4.5mm) - Digikey: P8090SCT-ND  KMT0 - KMT021 NGJ LHS (etc.) IP68/Waterproof - Digikey: CKN10289CT-ND
GateName_1: G$1; SymbolName_1: BUTTON_4PIN; DeviceName: EVQPQ; DeviceSetName: SWITCH_TACT_SMT; LibraryName: Adafruit PyGamer; Package: BTN_EVQPQ_4.5MM
footprint BTN_EVQPQ_4.5MM
pins: A P, B S, C P1, D S1

## SWITCH_TACT_SMTKMT0
designator SW?, comment SMT Tact Switches 6x6mm - Digikey: P12940SCT-ND  KMR2 (4.6x2.8mm) - Digikey: 401-1426-1-ND  EVQ-PQHB55 - Light Touch, 160GF (4.5x4.5mm) - Digikey: P8090SCT-ND  KMT0 - KMT021 NGJ LHS (etc.) IP68/Waterproof - Digikey: CKN10289CT-ND
GateName_1: G$1; SymbolName_1: BUTTON_4PIN; DeviceSetName: SWITCH_TACT_SMT; DeviceName: KMT0; LibraryName: Adafruit PyGamer; Package: BTN_KMT0
footprint BTN_KMT0
pins: A P, A' P1, B S, B' S1

## TESTPOINT
designator TP?, comment Test Point   Various test points for characterisation and PCB testing    TESTPOINT_SMT - Compact Surface Mount Test Point [Digikey: 5016KTR-ND]
GateName_1: G$1; SymbolName_1: TESTPOINT; LibraryName: Adafruit PyGamer; DeviceSetName: TESTPOINT; Package: TESTPOINT_SMT
footprint TESTPOINT_SMT
pins: P$1 (io)

## TESTPOINT0.1"
designator TP?, comment Test Point   Various test points for characterisation and PCB testing    TESTPOINT_SMT - Compact Surface Mount Test Point [Digikey: 5016KTR-ND]
GateName_1: G$1; DeviceName: 0.1"; BOM: EXCLUDE; SymbolName_1: TESTPOINT; LibraryName: Adafruit PyGamer; DeviceSetName: TESTPOINT; Package: 1X01_ROUND
footprint 1X01_ROUND
pins: 1 P$1 (io)

## TESTPOINT1.5X2.0MM_NOCREAM
designator TP?, comment Test Point   Various test points for characterisation and PCB testing    TESTPOINT_SMT - Compact Surface Mount Test Point [Digikey: 5016KTR-ND]
GateName_1: G$1; DeviceName: 1.5X2.0MM_NOCREAM; SymbolName_1: TESTPOINT; LibraryName: Adafruit PyGamer; DeviceSetName: TESTPOINT; Package: PAD-1.5X2.0
footprint PAD-1.5X2.0
pins: P$1 (io)

## TESTPOINTPAD1MM
designator TP?, comment Test Point   Various test points for characterisation and PCB testing    TESTPOINT_SMT - Compact Surface Mount Test Point [Digikey: 5016KTR-ND]
GateName_1: G$1; DeviceName: PAD1MM; SymbolName_1: TESTPOINT; LibraryName: Adafruit PyGamer; DeviceSetName: TESTPOINT; Package: TESTPOINT_PAD_1MM
footprint TESTPOINT_PAD_1MM
pins: P$1 (io)

## TESTPOINTPAD2MM
designator TP?, comment Test Point   Various test points for characterisation and PCB testing    TESTPOINT_SMT - Compact Surface Mount Test Point [Digikey: 5016KTR-ND]
GateName_1: G$1; DeviceName: PAD2MM; SymbolName_1: TESTPOINT; LibraryName: Adafruit PyGamer; DeviceSetName: TESTPOINT; Package: TESTPOINT_PAD_2MM
footprint TESTPOINT_PAD_2MM
pins: P$1 (io)

## TESTPOINTRECT0.25X1MM
designator TP?, comment Test Point   Various test points for characterisation and PCB testing    TESTPOINT_SMT - Compact Surface Mount Test Point [Digikey: 5016KTR-ND]
GateName_1: G$1; DeviceName: RECT0.25X1MM; SymbolName_1: TESTPOINT; LibraryName: Adafruit PyGamer; DeviceSetName: TESTPOINT; Package: TESTPOINT_RECT_0.25X1MM
footprint TESTPOINT_RECT_0.25X1MM
pins: P$1 (io)

## TESTPOINTROUND0.5MM
designator TP?, comment Test Point   Various test points for characterisation and PCB testing    TESTPOINT_SMT - Compact Surface Mount Test Point [Digikey: 5016KTR-ND]
GateName_1: G$1; DeviceName: ROUND0.5MM; SymbolName_1: TESTPOINT; LibraryName: Adafruit PyGamer; DeviceSetName: TESTPOINT; Package: TESTPOINT_ROUND_0.5MM
footprint TESTPOINT_ROUND_0.5MM
pins: P$1 (io)

## TESTPOINTROUND1.5MM
designator TP?, comment Test Point   Various test points for characterisation and PCB testing    TESTPOINT_SMT - Compact Surface Mount Test Point [Digikey: 5016KTR-ND]
GateName_1: G$1; DeviceName: ROUND1.5MM; SymbolName_1: TESTPOINT; LibraryName: Adafruit PyGamer; DeviceSetName: TESTPOINT; Package: TESTPOINT_ROUND_1.5MM
footprint TESTPOINT_ROUND_1.5MM
pins: P$1 (io)

## TESTPOINTROUND1.5MMNO
designator TP?, comment Test Point   Various test points for characterisation and PCB testing    TESTPOINT_SMT - Compact Surface Mount Test Point [Digikey: 5016KTR-ND]
GateName_1: G$1; DeviceName: ROUND1.5MMNO; SymbolName_1: TESTPOINT; LibraryName: Adafruit PyGamer; DeviceSetName: TESTPOINT; Package: TESTPOINT_ROUND_1.5MM_NO
footprint TESTPOINT_ROUND_1.5MM_NO
pins: P$1 (io)

## TESTPOINTROUND1MM
designator TP?, comment Test Point   Various test points for characterisation and PCB testing    TESTPOINT_SMT - Compact Surface Mount Test Point [Digikey: 5016KTR-ND]
GateName_1: G$1; DeviceName: ROUND1MM; SymbolName_1: TESTPOINT; LibraryName: Adafruit PyGamer; DeviceSetName: TESTPOINT; Package: TESTPOINT_ROUND_1MM
footprint TESTPOINT_ROUND_1MM
pins: P$1 (io)

## TESTPOINTROUND2MM
designator TP?, comment Test Point   Various test points for characterisation and PCB testing    TESTPOINT_SMT - Compact Surface Mount Test Point [Digikey: 5016KTR-ND]
GateName_1: G$1; DeviceName: ROUND2MM; SymbolName_1: TESTPOINT; LibraryName: Adafruit PyGamer; DeviceSetName: TESTPOINT; Package: TESTPOINT_ROUND_2MM
footprint TESTPOINT_ROUND_2MM
pins: P$1 (io)

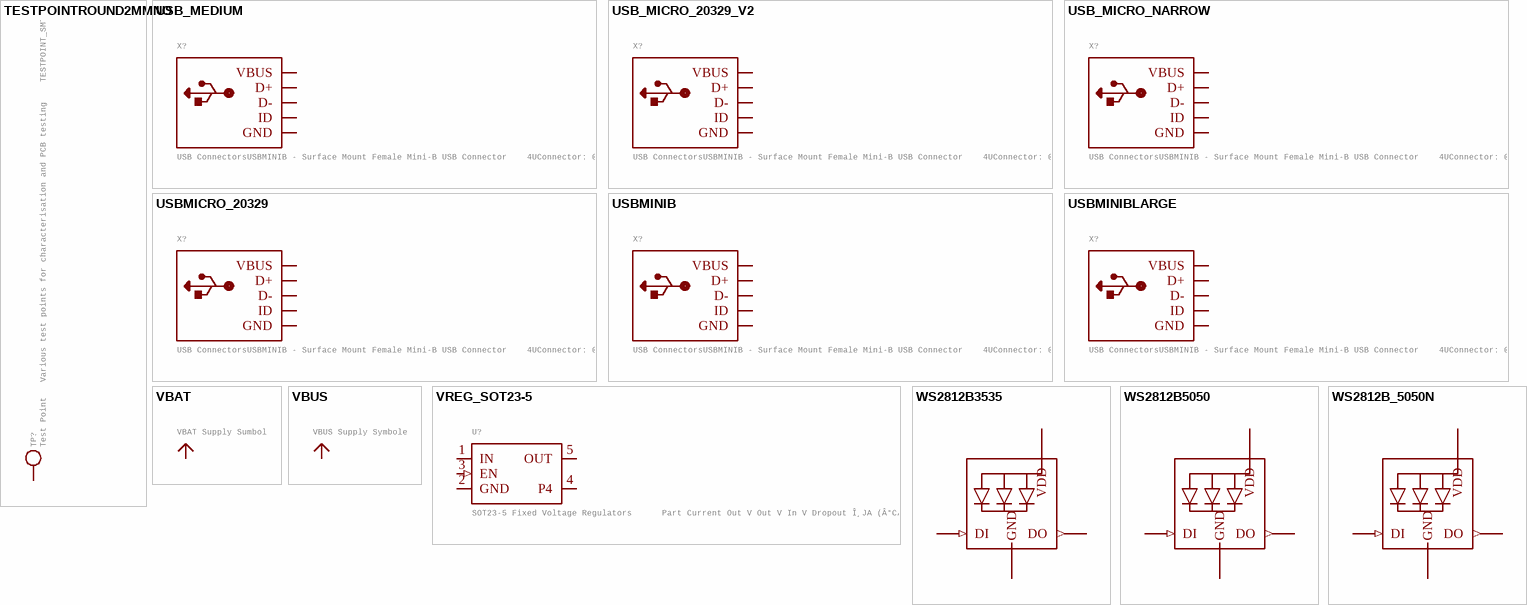
[diagram p9: symbols TESTPOINTROUND2MMNO to WS2812B_5050N]

## TESTPOINTROUND2MMNO
designator TP?, comment Test Point   Various test points for characterisation and PCB testing    TESTPOINT_SMT - Compact Surface Mount Test Point [Digikey: 5016KTR-ND]
GateName_1: G$1; DeviceName: ROUND2MMNO; SymbolName_1: TESTPOINT; LibraryName: Adafruit PyGamer; DeviceSetName: TESTPOINT; Package: TESTPOINT_ROUND_2MM_NO
footprint TESTPOINT_ROUND_2MM_NO
pins: P$1 (io)

## USB_MEDIUM
designator X?, comment USB ConnectorsUSBMINIB - Surface Mount Female Mini-B USB Connector    4UConnector: 06564
GateName_1: G$1; DeviceName: _MEDIUM; SymbolName_1: USB; LibraryName: Adafruit PyGamer; DeviceSetName: USB; Package: USB-MINI_MEDIUM
footprint USB-MINI_MEDIUM
pins: D+ (io), D- (io), GND,GND1,GND2,GND3,GND4 GND (power), ID (io), VBUS (power)

## USB_MICRO_20329_V2
designator X?, comment USB ConnectorsUSBMINIB - Surface Mount Female Mini-B USB Connector    4UConnector: 06564
GateName_1: G$1; DeviceName: _MICRO_20329_V2; SymbolName_1: USB; LibraryName: Adafruit PyGamer; DeviceSetName: USB; Package: 4UCONN_20329_V2
footprint 4UCONN_20329_V2
pins: BASE@1,BASE@2,GND,SPRT@1,SPRT@2,SPRT@3,SPRT@4 GND (power), D+ (io), D- (io), ID (io), VBUS (power)

## USB_MICRO_NARROW
designator X?, comment USB ConnectorsUSBMINIB - Surface Mount Female Mini-B USB Connector    4UConnector: 06564
GateName_1: G$1; DeviceName: _MICRO_NARROW; SymbolName_1: USB; LibraryName: Adafruit PyGamer; DeviceSetName: USB; Package: 4UCONN_20329_NARROW
footprint 4UCONN_20329_NARROW
pins: BASE@1,BASE@2,GND,SPRT@1,SPRT@2,SPRT@3,SPRT@4 GND (power), D+ (io), D- (io), ID (io), VBUS (power)

## USBMICRO_20329
designator X?, comment USB ConnectorsUSBMINIB - Surface Mount Female Mini-B USB Connector    4UConnector: 06564
GateName_1: G$1; DeviceName: MICRO_20329; SymbolName_1: USB; LibraryName: Adafruit PyGamer; DeviceSetName: USB; Package: 4UCONN_20329
footprint 4UCONN_20329
pins: BASE@1,BASE@2,GND,SPRT@1,SPRT@2,SPRT@3,SPRT@4 GND (power), D+ (io), D- (io), ID (io), VBUS (power)

## USBMINIB
designator X?, comment USB ConnectorsUSBMINIB - Surface Mount Female Mini-B USB Connector    4UConnector: 06564
GateName_1: G$1; DeviceName: MINIB; SymbolName_1: USB; LibraryName: Adafruit PyGamer; DeviceSetName: USB; Package: USB-MINIB
footprint USB-MINIB
pins: D+ (io), D- (io), GND,GND1,GND2,GND3,GND4 GND (power), ID (io), VBUS (power)

## USBMINIBLARGE
designator X?, comment USB ConnectorsUSBMINIB - Surface Mount Female Mini-B USB Connector    4UConnector: 06564
GateName_1: G$1; DeviceName: MINIBLARGE; SymbolName_1: USB; LibraryName: Adafruit PyGamer; DeviceSetName: USB; Package: USB-MINIB_LARGER
footprint USB-MINIB_LARGER
pins: D+ (io), D- (io), GND,GND1,GND2,GND3,GND4 GND (power), ID (io), VBUS (power)

## VBAT
designator ?, comment VBAT Supply Sumbol
GateName_1: G$1; SymbolName_1: VBAT; LibraryName: Adafruit PyGamer; DeviceSetName: VBAT
pins: ?1 VBAT (power)

## VBUS
designator ?, comment VBUS Supply Symbole
GateName_1: G$1; SymbolName_1: VBUS; LibraryName: Adafruit PyGamer; DeviceSetName: VBUS
pins: ?1 VBUS (power)

## VREG_SOT23-5
designator U?, comment SOT23-5 Fixed Voltage Regulators      Part	Current Out	V Out	V In	V Dropout	Î¸JA (Â°C/W)	TJ (Â°C)	Digikey Part No.	     ADP121	  150mA	  3.3V	  3.4-5.5V	  0.09V @ 150mA	  --	  --	  ADP121-AUJZ33R7CT-ND	     ADP121	  150mA	  3.0V	  3.1-5.5V	  0.09V @ 150mA	  --	  --	  ADP121-AUJZ30R7CT-ND	     ADP122	  300mA	  3.3V	  3.4-5.5V	  0.085V @ 300mA	  --	  --	  ADP122AUJZ-3.3-R7CT-ND	     ADP1712	  300mA	  3.3V	  3.5-5.5V	  0.17V @ 300mA	  --	  --	  ADP1712AUJZ-3.3-R7TR-ND	     AP7311 (Low Cost)	  150mA	  3.3V	  3.5-6V	  0.15V @ 150mA	  --	  --	  AP7311-33WG-7DICT-ND	     LD39015M18R	  150mA	  1.8V	  1.9V-5.5V	  0.08V @ 100mA	  --	  --	  497-6977-1-ND	     LP2985A-33DBVR	  150mA	  3.3V	  3.3-16V	  0.28V @ 150mA	  206	  150	  296-18479-1-ND	     MCP1824T-3302E/OT	  300mA	  3.3V	  3.5V-6V	  0.2V @ 300mA	  --	  --	  MCP1824T-3302E/OTCT-ND	     MIC5205-2.5YM5 TR	  150mA	  2.5V	  2.7-16V	  0.165V @ 150mA	  --	  --	  576-1257-2-ND	     MIC5205-3.0YM5 TR	  150mA	  3.0V	  3.2V-16V	  0.165V @ 150mA	  --	  --	  576-1258-2-ND	     MIC5205-3.3YM5 TR	  150mA	  3.3V	  3.5V-16V	  0.165V @ 150mA	  --	  --	  576-1259-2-ND	     TPS780330220	  150mA	  3.3V+2.2V	  3.6-5.5V	  250mV Max	  --	  --	  296-23332-1-ND	     TDA3663/N1,135	  100mA	  3.3V	  3.5-45V	  0.18V @ 50mA	  --	  --	  568-5343-1-ND	     	  	  	  	  	  	  	  	     	  	  	  	  	  	  	  	   Max operating temp can be calculated using Î¸JA, TJ (max junction temperature), and power in watts.  Set the "Maximum Ambient Temperature" until it reaches TJ ("Max Junction Temperature"), which is the absolute limit for safe use of the regulator: Heat Sink Temperature Calculator   For example, With 12V source into a 3.3V LP2985 and a 30mA load, we are dissipating (12V-3.3V) * 0.03A = 0.261W.  With a Î¸JA of 206 Â°C/W, a TJ of 150Â°C, and 261mW we can safely use the chip without a heat sink up to 75Â°C (=147.1Â°C Junction Temperature).
GateName_1: G$1; SymbolName_1: VREG_SOT23-5; LibraryName: Adafruit PyGamer; DeviceSetName: VREG_SOT23-5; Package: SOT23-5
footprint SOT23-5
pins: 1 IN (power), 2 GND (power), 3 EN (in), 4 P4 (io), 5 OUT (power)

## WS2812B3535
designator LED?
GateName_1: G$1; SymbolName_1: WS2812BLED; DeviceName: 3535; DeviceSetName: WS2812B; LibraryName: Adafruit PyGamer; Package: LED3535
footprint LED3535
pins: 1 DI (in), 2 VDD (power), 3 DO (out), 4 GND (power)

## WS2812B5050
designator LED?
GateName_1: G$1; SymbolName_1: WS2812BLED; DeviceName: 5050; DeviceSetName: WS2812B; LibraryName: Adafruit PyGamer; Package: WS2812B
footprint WS2812B
pins: 1-VDD VDD (power), 2-DOUT DO (out), 3-GND GND (power), 4-DIN DI (in)

## WS2812B_5050N
designator LED?
GateName_1: G$1; SymbolName_1: WS2812BLED; DeviceName: _5050N; DeviceSetName: WS2812B; LibraryName: Adafruit PyGamer; Package: WS2812B-NARROW
footprint WS2812B-NARROW
pins: 1-VDD VDD (power), 2-DOUT DO (out), 3-GND GND (power), 4-DIN DI (in)